# Altium footprint library resistors.PcbLib: 1 footprints
Each footprint in its own frame and in the unit in brackets; x right, y up, seen from the top. Pads: shape width x height; smd on the part's side, far side on the other; paste and mask are expansions set on the pad; w line width, h text height; cw(c..) or ccw(c..) is an arc to the next point about the centre after c.
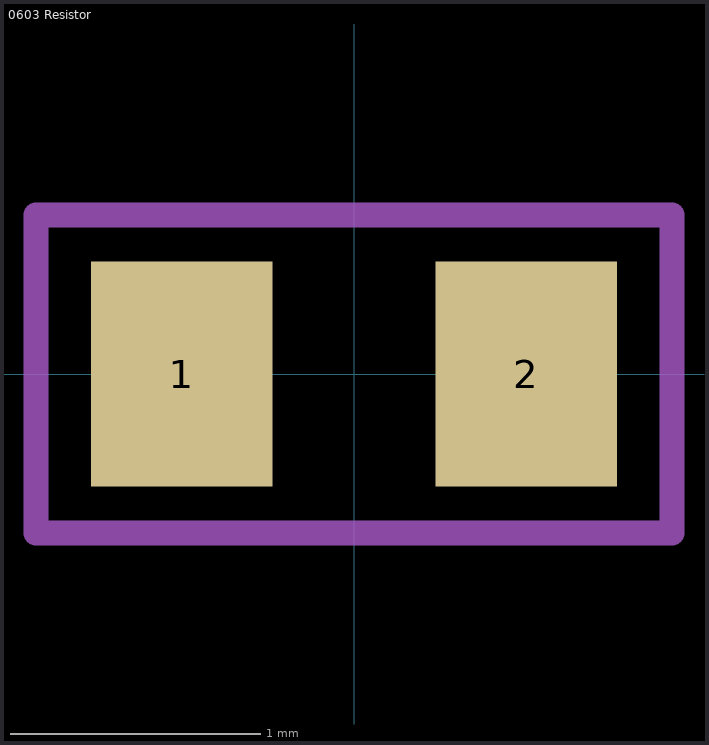
[diagram p0: the footprint, top view; thin cyan lines are the x and y axes]

## 0603 Resistor [mm]
height 0.55
pads (2):
  rect 0.725x0.9 smd: 1(-0.687,0) 2(0.687,0)
Top Courtyard:
  lines w0.1: -1.27,-0.635 1.27,-0.635 1.27,0.635 -1.27,0.635 -1.27,-0.635
3D body "RMCF0603_stp.stp": height 0.44, standoff -0.01, extent -0.775,-0.4 0.775,0.4